# Altium schematic symbol library PROPCB.SchLib: 2 symbols
Pins are listed as number, name and electrical type; pins without a type are passive.

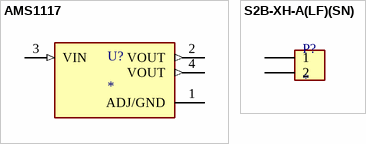
[diagram p0: symbols AMS1117 to S2B-XH-A(LF)(SN)]

## AMS1117
designator U?
1A LOW DROPOUT VOLTAGE REGULATOR SOT-223; MP: AMS1117; MF: Advanced Monolithic Systems; Price: None; Availability: Not in stock; Package: SOT-223 Seeed Technology; Value: *; SnapEDA_Link: https://www.snapeda.com/parts/AMS1117/Advanced+Monolithic+Systems/view-part/?ref=snap; Check_prices: https://www.snapeda.com/parts/AMS1117/Advanced+Monolithic+Systems/view-part/?ref=eda
footprint SOT229P700X180-4N
pins: 1 ADJ/GND (power), 2 VOUT (out), 3 VIN (in), 4 VOUT (out)

## S2B-XH-A(LF)(SN)
designator P?
Connector Header Through Hole, Right Angle 2 position 0.098 (2.50mm); MF: JST Sales; MP: S2B-XH-A(LF)(SN); Purchase-URL: https://pricing.snapeda.com/search/part/S2B-XH-A(LF)(SN)/?ref=eda; Digi-Key_Part_Number: 455-2257-ND; Package: None; Check_prices: https://www.snapeda.com/parts/S2B-XH-A(LF)(SN)/JST+Sales+America+Inc./view-part/?ref=eda; Value: *; SnapEDA_Link: https://www.snapeda.com/parts/S2B-XH-A(LF)(SN)/JST+Sales+America+Inc./view-part/?ref=snap
footprint JST_S2B-XH-A(LF)(SN)
pins: 1, 2